# Altium schematic symbol library Brain_Stim_Lib.SchLib: 18 symbols
Pins are listed as number, name and electrical type; pins without a type are passive.

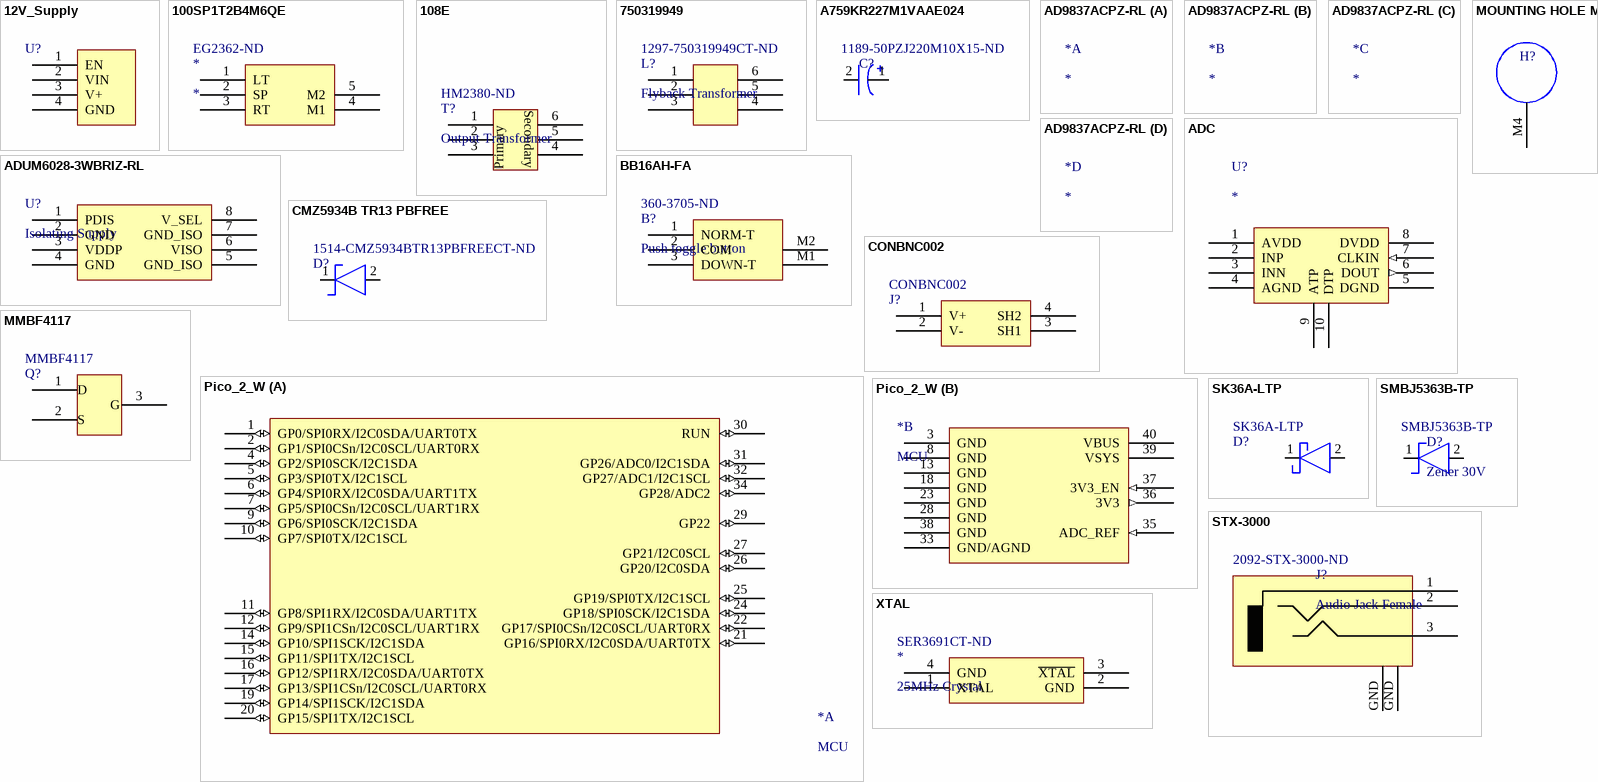
[diagram p0: symbols 12V_Supply to XTAL]

## 12V_Supply
designator U?, comment Adafruit 12V Bias Voltage Boost Converter - TPS61040  (value not drawn)
footprint 12V_Suppy
pins: 1 EN, 2 VIN, 3 V+, 4 GND

## 100SP1T2B4M6QE
designator *  Supplier Part Number 1: EG2362-ND
Supplier 1: DigiKey
footprint 100SP1T2B4M6QE
pins: 1 LT, 2 SP, 3 RT, 4 M1, 5 M2

## 108E
designator T?, comment Output Transformer  Supplier Part Number 1: HM2380-ND
Supplier 1: DigiKey
footprint 108E
pins: 1, 2, 3, 4, 5, 6
text: Secondary; Primary

## 750319949
designator L?, comment Flyback Transformer  Supplier Part Number 1: 1297-750319949CT-ND
Supplier 1: DigiKey
footprint 750319949
pins: 1, 2, 3, 4, 5, 6

## A759KR227M1VAAE024
designator C?, comment Supplier Part Number 1: 1189-50PZJ220M10X15-ND  (hidden comment: 220uF Cap)
Supplier 1: DigiKey
footprint A759KR227M1VAAE024
pins: 1 Vin, 2 Vin

## AD9837ACPZ-RL
designator *

## ADC
designator U?
footprint SON65P350X100_HS-9N (SON, 8-Leads, Body 2.70x3.50mm, Pitch 0.65mm, Thermal Pad 2.23x0.70mm, IPC Medium Density)
pins: 1 AVDD, 2 INP, 3 INN, 4 AGND, 5 DGND, 6 DOUT (out), 7 CLKIN (in), 8 DVDD, 9 ATP, 10 DTP

## ADUM6028-3WBRIZ-RL
designator U?, comment Isolating Supply
footprint ADUM6028-3WBRIZ-RL
pins: 1 PDIS, 2 GND, 3 VDDP, 4 GND, 5 GND_ISO, 6 VISO, 7 GND_ISO, 8 V_SEL

## BB16AH-FA
designator B?, comment Push toggle button  Supplier Part Number 1: 360-3705-ND
Supplier 1: DigiKey
footprint BB16AH-FA
pins: 1 NORM-T, 2 COM, 3 DOWN-T, M1, M2

## CMZ5934B TR13 PBFREE
designator D?, comment Supplier Part Number 1: 1514-CMZ5934BTR13PBFREECT-ND  (hidden comment: Zener 24V)
Supplier 1: DigiKey
footprint CMZ5934B TR13 PBFREE
pins: 1, 2

## CONBNC002
designator J?, comment Supplier Part Number 1: CONBNC002  (hidden comment: BNC Connector)
Supplier 1: Newark
footprint CONBNC002
pins: 1 V+, 2 V-, 3 SH1, 4 SH2

## MMBF4117
designator Q?, comment Supplier Part Number 1: MMBF4117  (hidden comment: Attenuator JFET)
Supplier 1: Arrow Electronics
footprint MMBF4117
pins: 1, 2, 3
text: D; G; S

## MOUNTING HOLE M4
designator H?, comment M4 Mounting Hole  (value not drawn)
footprint Mounting Hole
pins: M4

## Pico_2_W
designator *, comment MCU
part A pins: 1 GP0/SPI0RX/I2C0SDA/UART0TX (io), 2 GP1/SPI0CSn/I2C0SCL/UART0RX (io), 4 GP2/SPI0SCK/I2C1SDA (io), 5 GP3/SPI0TX/I2C1SCL (io), 6 GP4/SPI0RX/I2C0SDA/UART1TX (io), 7 GP5/SPI0CSn/I2C0SCL/UART1RX (io), 9 GP6/SPI0SCK/I2C1SDA (io), 10 GP7/SPI0TX/I2C1SCL (io), 11 GP8/SPI1RX/I2C0SDA/UART1TX (io), 12 GP9/SPI1CSn/I2C0SCL/UART1RX (io), 14 GP10/SPI1SCK/I2C1SDA (io), 15 GP11/SPI1TX/I2C1SCL (io), 16 GP12/SPI1RX/I2C0SDA/UART0TX (io), 17 GP13/SPI1CSn/I2C0SCL/UART0RX (io), 19 GP14/SPI1SCK/I2C1SDA (io), 20 GP15/SPI1TX/I2C1SCL (io), 21 GP16/SPI0RX/I2C0SDA/UART0TX (io), 22 GP17/SPI0CSn/I2C0SCL/UART0RX (io), 24 GP18/SPI0SCK/I2C1SDA (io), 25 GP19/SPI0TX/I2C1SCL (io), 26 GP20/I2C0SDA (io), 27 GP21/I2C0SCL (io), 29 GP22 (io), 30 RUN (io), 31 GP26/ADC0/I2C1SDA (io), 32 GP27/ADC1/I2C1SCL (io), 34 GP28/ADC2 (io)
part B pins: 3 GND, 8 GND, 13 GND, 18 GND, 23 GND, 28 GND, 33 GND/AGND, 35 ADC_REF (in), 36 3V3 (out), 37 3V3_EN (in), 38 GND, 39 VSYS, 40 VBUS

## SK36A-LTP
designator D?, comment Supplier Part Number 1: SK36A-LTP  (hidden comment: Schottky 60V)
Supplier 1: Arrow Electronics
footprint SK36A-LTP
footprint SK36A-LTP - duplicate (Molded Diode, 2-Leads, Body 4.38x2.59mm, IPC Medium Density)
pins: 1, 2

## SMBJ5363B-TP
designator D?, comment Zener 30V  Supplier Part Number 1: SMBJ5363B-TP
Supplier 1: Arrow Electronics
footprint SMBJ5363B-TP (Molded Diode, 2-Leads, Body 4.46x3.62mm, IPC Medium Density)
pins: 1, 2

## STX-3000
designator J?, comment Audio Jack Female  Supplier Part Number 1: 2092-STX-3000-ND
Supplier 1: DigiKey
footprint STX-3000
pins: 1, 2, 3, GND, GND

## XTAL
designator *, comment 25MHz Crystal  Supplier Part Number 1: SER3691CT-ND
ComponentLink1Description: New link; ComponentLink1URL: *; Supplier 1: DigiKey
footprint XTAL_Basic
footprint XTAL_Basic
pins: 1 XTAL, 2 GND, 3 ~{XTAL}, 4 GND